# Altium schematic symbol library LTST-C191KSKT.SchLib: 1 symbol
Pins are listed as number, name and electrical type; pins without a type are passive.

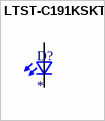
[diagram p0: symbol LTST-C191KSKT]

## LTST-C191KSKT
designator D?
Yellow 591nm LED Indication - Discrete 2.1V 0603 (1608 Metric); MF: Lite-On Inc.; MP: LTST-C191KSKT; SnapEDA_Link: https://www.snapeda.com/parts/LTST-C191KSKT/Lite-On/view-part/?ref=snap; Package: 0603 Lite-On Inc.; Value: *; Check_prices: https://www.snapeda.com/parts/LTST-C191KSKT/Lite-On/view-part/?ref=eda
footprint 0603
pins: 1 K2, 2 A2